# EAGLE library part EL84C (library tubes)
EL84: RF pentode tube (jj-electronic) Heater 6.3V/760mA, 250V Ua, 12W Qmax with case pin
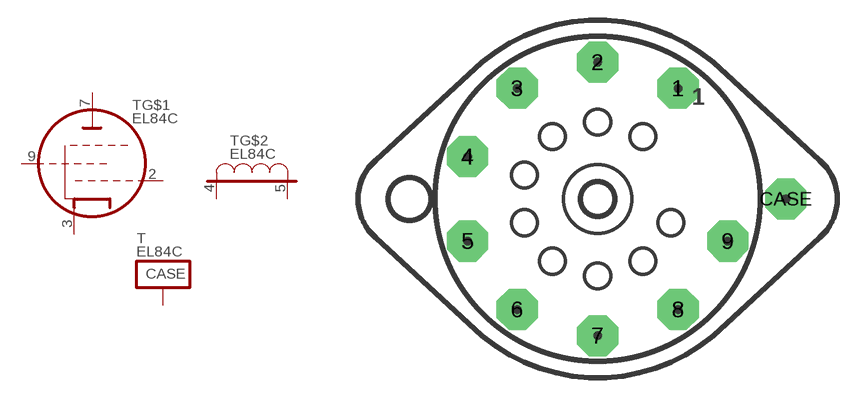
[diagram p5: symbol with the pads of NOVAL-C; footprint NOVAL-C]

Designator prefix T; gates G$1=EL84A G$2=EL84H C=CASE

## EL84C  [NOVAL-C]
2  G$1:G1
3  G$1:C
4  G$2:H1
5  G$2:H2
7  G$1:A
9  G$1:G2  in
CASE  C:CASE  pas

## Footprint NOVAL-C (pad centres in mm)
Vacuum tube socket, 9 pins with case pin
drill 1.6 pad 3.048 octagon: 1 5.972,8.22; 2 0,10.16; 3 -5.972,8.22; 4 -9.663,3.14; 5 -9.663,-3.14; 6 -5.972,-8.22; 7 0,-10.16; 8 5.972,-8.22; 9 9.663,-3.14
drill 1.194 pad 3.048 octagon: CASE 13.97,0
hole 3.2 at -13.97,0